# Altium schematic symbol library comparators.SchLib: 2 symbols
Pins are listed as number, name and electrical type; pins without a type are passive.

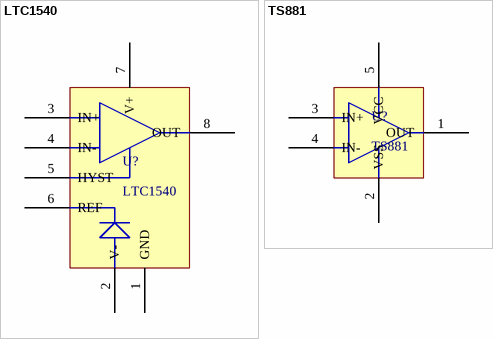
[diagram p0: symbols LTC1540 to TS881]

## LTC1540
designator U?
Nanopower Comparator  with Reference; Supplier 1: Digi-Key; Supplier Part Number 1: LTC1540CMS8#PBF-ND
footprint MSOP-8 (TSOP, 8-Leads, Body 3.00x3.00mm, Pitch 0.65mm, IPC Medium Density)
pins: 1 GND, 2 V-, 3 IN+, 4 IN-, 5 HYST, 6 REF, 7 V+, 8 OUT

## TS881
designator U?
Rail-to-rail 0.9 V nanopower comparator; Supplier 1: Digi-Key; Supplier Part Number 1: 497-13217-1-ND
footprint SC70-5
pins: 1 OUT, 2 VSS, 3 IN+, 4 IN-, 5 VCC